# Altium schematic symbol library Power supply regulators.SchLib: 7 symbols
Pins are listed as number, name and electrical type; pins without a type are passive.

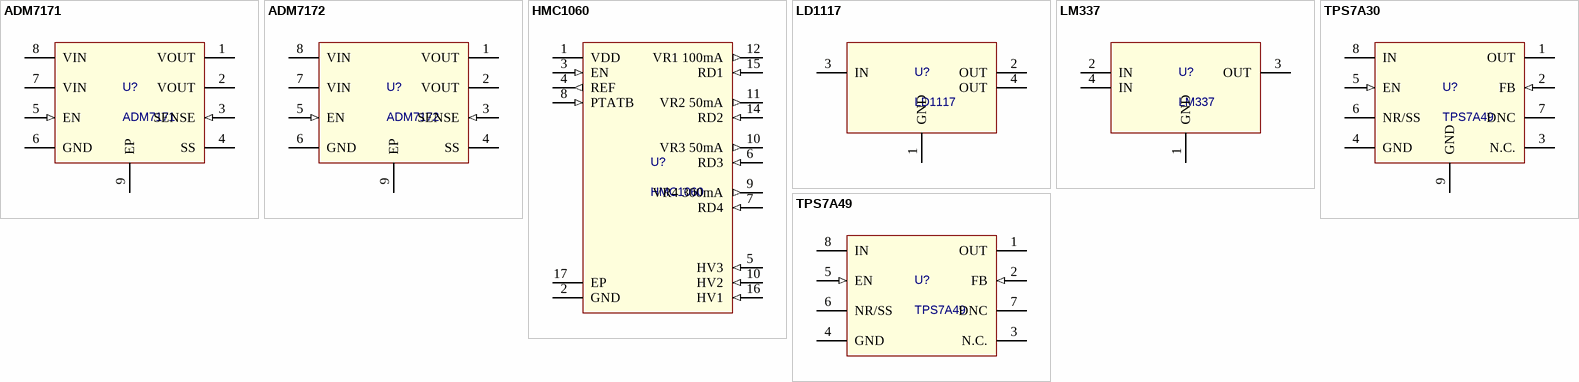
[diagram p0: symbols ADM7171 to TPS7A49]

## ADM7171
designator U?
6.5 V, 1 A, Ultralow Noise, High PSRR, / Fast Transient Response CMOS LDO.; Manufacture: Analog Devices; Part number: ADM7171ACPZ-1.8
footprint 8-lead LFCSP (SON, 8-Leads, Body 3.00x3.00mm, Pitch 0.50mm, Thermal Pad 2.34x1.49mm, IPC Medium Density)
pins: 1 VOUT (power) "Regulated Output Voltage. Bypass this pin to GND with a 4.7 μF or greater capacitor.", 2 VOUT (power) "Regulated Output Voltage. This pin is internally connected to Pin 1.", 3 SENSE (in) "Sense Input. Connect this pin as close as possible to the load for best load regulation. Use an external.", 4 SS "Soft Start. A 1 nF external capacitor connected to SS results in a 1.0 ms start-up time.", 5 EN (in) "Regulator Enable. Drive EN high to turn on the regulator; drive EN low to turn off the regulator. For", 6 GND (power) "Ground.", 7 VIN (power) "Regulator Input Supply. Bypass this pin to GND with a 4.7 μF or greater capacitor.", 8 VIN (power) "Regulator Input Supply. This pin is internally connected to Pin 7.", 9 EP (power) "Exposed Pad. The exposed pad is on the bottom of the package. The exposed pad enhances thermal."

## ADM7172
designator U?
6.5 V, 2 A, Ultralow Noise, High PSRR, Fast / Transient Response CMOS LDO; Manufacture: Analog Devices; Part number: ADM7172ACPZ-1.8-R7
footprint 8-lead LFCSP (SON, 8-Leads, Body 3.00x3.00mm, Pitch 0.50mm, Thermal Pad 2.34x1.49mm, IPC Medium Density)
pins: 1 VOUT (power) "Regulated Output Voltage. Bypass this pin to GND with a 4.7 μF or greater capacitor.", 2 VOUT (power) "Regulated Output Voltage. This pin is internally connected to Pin 1.", 3 SENSE (in) "Sense Input. Connect this pin as close as possible to the load for best load regulation. Use an external.", 4 SS "Soft Start. A 1 nF external capacitor connected to SS results in a 1.0 ms start-up time.", 5 EN (in) "Regulator Enable. Drive EN high to turn on the regulator; drive EN low to turn off the regulator. For", 6 GND (power) "Ground.", 7 VIN (power) "Regulator Input Supply. Bypass this pin to GND with a 4.7 μF or greater capacitor.", 8 VIN (power) "Regulator Input Supply. This pin is internally connected to Pin 7.", 9 EP (power) "Exposed Pad. The exposed pad is on the bottom of the package. The exposed pad enhances thermal."

## HMC1060
designator U?
QUAD LOW NOISE HIGH PSRR, / LINEAR VOLTAGE REGULATOR.; Manufacture: Analog Devices; Part number: HMC1060LP3E
footprint QFN16 (QFN16 3x3 0.5P)
pins: 1 VDD (power) "Unregulated power supply input, 5.3V-5.6V.", 2 GND (power) "Supply Ground.", 3 EN (in) "Enable Input, TT L Logic Level. The VRx outputs are floating (high impedance) when EN = Low.", 4 REF (out) "Reference voltage (band-gap) output.  Cannot be used to source/sink current to/from external circuits. Voltage on REF pin = 1.17 at +27°C when PTAT Mode is disabled, and equals 1.37 V at +27°C when PTAT Mode is enabled. Must be measured with 10 GΩ meter such as Agilent 33410A, typical 10 MΩ DVM may read erroneously.", 5 HV3 (in) "Used with RD 3 to set VR3 output voltage.", 6 RD3 (in) "Feedback for VR3.", 7 RD4 (in) "Feedback for VR4.", 8 PTATB (in) "Sets all output voltages in PTAT mode when connected to GND , default mode when open.", 9 VR4 300mA (out) "Regulator output #4.", 10 HV2 (in) "Used with RD 2 to set VR2 output voltage.", 10 VR3 50mA (out) "Regulator output #3.", 11 VR2 50mA (out) "Regulator output #2.", 12 VR1 100mA (out) "Regulator output #1.", 14 RD2 (in) "Feedback for VR2.", 15 RD1 (in) "Feedback for VR1.", 16 HV1 (in) "Used with RD 1 to set VR1 output voltage", 17 EP (power) "Exposed Pad. The exposed pad is on the bottom of the package. The exposed pad enhances thermal."

## LD1117
designator U?
footprint SOT223 (SOT223, 4-Leads, Body 6.50x7.00mm (avg), Pitch 2.30mm, IPC Medium Density)
pins: 1 GND, 2 OUT, 3 IN, 4 OUT

## LM337
designator U?
footprint SOT223 (SOT223, 4-Leads, Body 6.50x7.00mm (avg), Pitch 2.30mm, IPC Medium Density)
pins: 1 GND, 2 IN, 3 OUT, 4 IN

## TPS7A30
designator U?, comment TPS7A49
TPS7A49 36-V, 200-mA, Ultralow-Noise, Negative Linear Regulator.; Manufacture: Texas Instruments; Part number: TPS7A4901DRBT
footprint VSON8
footprint VSSOP8
pins: 1 OUT (power) "Regelator output.A capacitor >= 2.2 uF must be tied from this pin to ground to ensure stability.", 2 FB (in) "This pin is the input to the error amplifier. FB is used to set the outpur voltage of the device.", 3 N.C. "Not internally connected. This pin can either be left open or tied to GND.", 4 GND (power) "Ground.", 5 EN (in) "This pin turns the regulator on or off. If Ven >= Ven(high), the regulator is enabled.  If Ven <= Ven(low), the regulator is disabled. The EN pin can be connected to IN, If not used. Ven <= Vin.", 6 NR/SS "Noise-reduction pin. Connecting an external capasitor to this pin bypasses noise generated by the internal band gap. This capasitor allows RMS noise to be reduced to very low levels and also controls the soft-start functin.", 7 DNC "Do not connect. Do not route this pin to any electrical net, not even GND or IN.", 8 IN (power) "Input supply.", 9 GND (power) "Input supply."

## TPS7A49
designator U?
TPS7A49 36-V, 150-mA, Ultralow-Noise, Positive Linear Regulator.; Manufacture: Texas Instruments; Part number: TPS7A4901DRBT
footprint VSON8
footprint VSSOP8
pins: 1 OUT (power) "Regelator output.A capacitor >= 2.2 uF must be tied from this pin to ground to ensure stability.", 2 FB (in) "This pin is the input to the error amplifier. FB is used to set the outpur voltage of the device.", 3 N.C. "Not internally connected. This pin can either be left open or tied to GND.", 4 GND (power) "Ground.", 5 EN (in) "This pin turns the regulator on or off. If Ven >= Ven(high), the regulator is enabled.  If Ven <= Ven(low), the regulator is disabled. The EN pin can be connected to IN, If not used. Ven <= Vin.", 6 NR/SS "Noise-reduction pin. Connecting an external capasitor to this pin bypasses noise generated by the internal band gap. This capasitor allows RMS noise to be reduced to very low levels and also controls the soft-start functin.", 7 DNC "Do not connect. Do not route this pin to any electrical net, not even GND or IN.", 8 IN (power) "Input supply."